# EAGLE library part TPS61098X (library My_TI)
Ultra-Low Quiescent Current Synchronous Boost with Integrated LDO/Load Switch
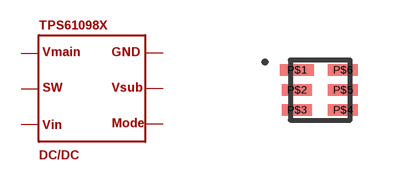
[diagram p7: symbol with the pads of WSON6; footprint WSON6]

Designator prefix DC/DC

## TPS61098X  [WSON6]
P$1  P$1
P$2  P$2
P$3  P$3
P$4  P$4
P$5  P$5
P$6  P$6

## Footprint WSON6 (pad centres in mm)
smd 0.85 x 0.28: P$1 -0.6,0.5
smd 0.75 x 0.28: P$2 -0.6,0; P$3 -0.6,-0.5; P$4 0.55,-0.5; P$5 0.55,0; P$6 0.55,0.5